# Altium schematic symbol library CSD16570Q5B.SchLib: 1 symbol
Pins are listed as number, name and electrical type; pins without a type are passive.

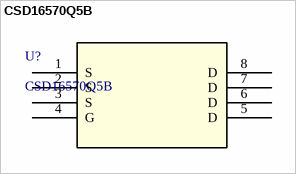
[diagram p0: symbol CSD16570Q5B]

## CSD16570Q5B
designator U?
No Description Available; Mfr_Name: Texas Instruments; Copyright: Copyright (C) 2022 Ultra Librarian. All rights reserved.; Manufacturer_Part_Number: CSD16570Q5B; RefDes: RefDes; Type: DEV
footprint DNK8
pins: 1 S, 2 S, 3 S, 4 G, 5 D, 6 D, 7 D, 8 D